# Altium footprint library 43860.PcbLib: 1 footprints
Each footprint in its own frame and in the unit in brackets; x right, y up, seen from the top. Pads: shape width x height; smd on the part's side, far side on the other; paste and mask are expansions set on the pad; w line width, h text height; cw(c..) or ccw(c..) is an arc to the next point about the centre after c.
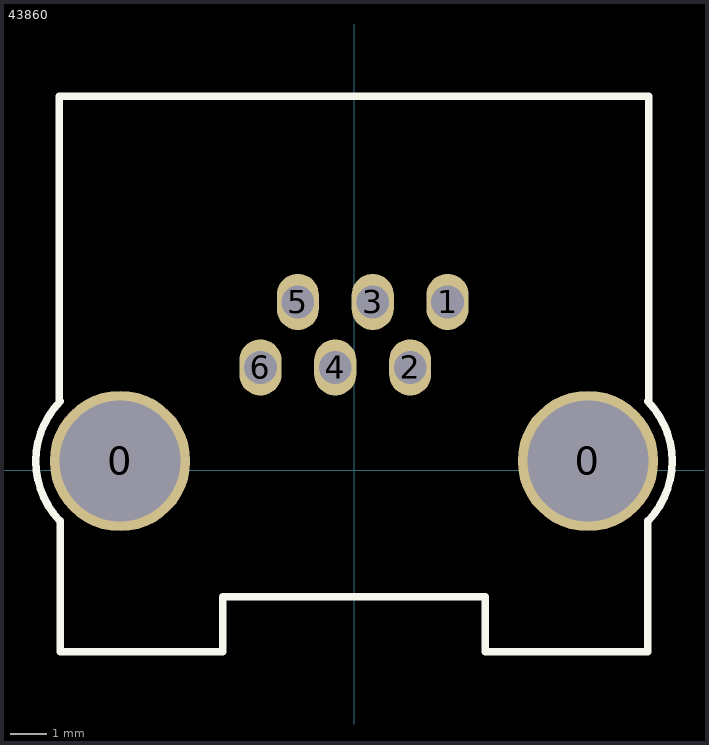
[diagram p0: the footprint, top view; thin cyan lines are the x and y axes]

## 43860 [mil]
pads (8):
  round 150 hole 129: 0(-250,10) 0(250,10)
  oval 45x60 hole 35: 1(100,180) 2(60,110) 3(20,180) 4(-20,110) 5(-60,180) 6(-100,110)
Top Overlay:
  lines w8: -315,75 -315,400 0,400 315,400 315,75 ; -313.84,73.87 ccw(c-248.34,9.75) -314.09,-54.12 -314.09,-194.09 -140,-194.09 -140,-135 0,-135 140,-135 140,-194.09 314.09,-194.09 314.09,-54.12 ccw(c248.34,9.75) 313.84,73.87
3D body: height 525, standoff -119, extent -311.26,-190 311.25,399.99